# Altium footprint library XC6220B331ERG.PcbLib: 1 footprints
Each footprint in its own frame and in the unit in brackets; x right, y up, seen from the top. Pads: shape width x height; smd on the part's side, far side on the other; paste and mask are expansions set on the pad; w line width, h text height; cw(c..) or ccw(c..) is an arc to the next point about the centre after c.
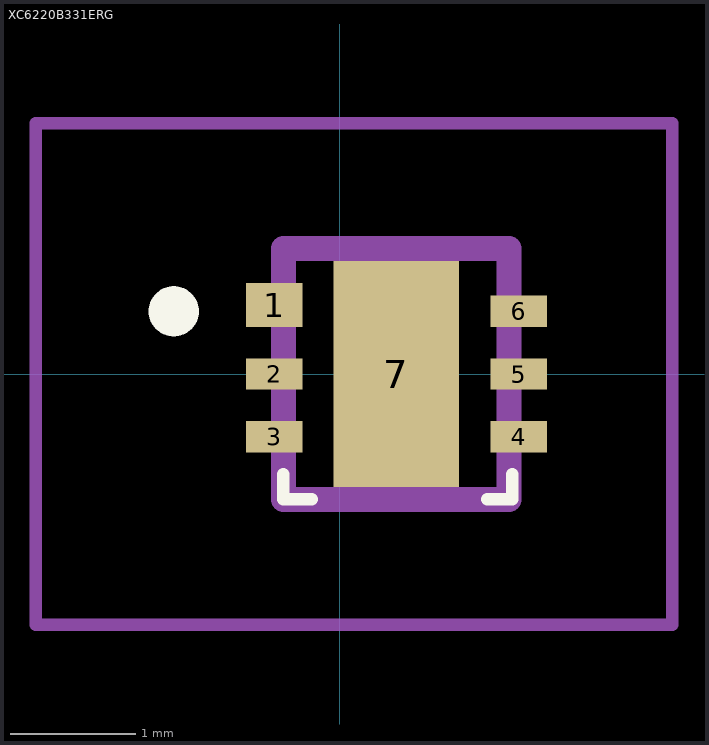
[diagram p0: the footprint, top view; thin cyan lines are the x and y axes]

## XC6220B331ERG [mm]
pads (7):
  rect 0.45x0.35 smd: 1(-0.525,0.55)
  rect 0.45x0.25 smd: 2(-0.525,0) 3(-0.525,-0.5) 4(1.425,-0.5) 5(1.425,0) 6(1.425,0.5)
  rect 1x1.8 smd: 7(0.45,0)
Top Overlay:
  lines w0.1: -0.45,-0.8 -0.45,-1 -0.225,-1 ; 1.175,-1 1.375,-1 1.375,-0.8
  lines w0.2: -1.325,0.4 -1.325,0.4 ; -1.325,0.4 ccw(c-1.325,0.5) -1.325,0.6 ; -1.325,0.4 cw(c-1.325,0.5) -1.325,0.6 ; -1.325,0.6 -1.325,0.6
Mechanical 15:
  lines w0.2: -0.45,-1 1.35,-1 1.35,1 -0.45,1 -0.45,-1
Mechanical 20:
  lines w0.1: -2.425,-2 2.65,-2 2.65,2 -2.425,2 -2.425,-2